# EAGLE library part DMB2227A (library doides-transistor)
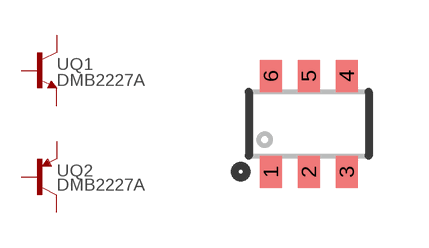
[diagram p0: symbol with the pads of SOT26; footprint SOT26]

Designator prefix -; gates Q1=NPN Q2=PNP

## DMB2227A  [SOT26]
1  Q1:B  pas
2  Q2:E  pas
3  Q2:B  pas
4  Q2:C  pas
5  Q1:E  pas
6  Q1:C  pas

## Footprint SOT26 (pad centres in mm)
smd 0.55 x 0.8: 1 -0.95,-1.2; 2 0,-1.2; 3 0.95,-1.2; 4 0.95,1.2; 5 0,1.2; 6 -0.95,1.2